# Altium schematic symbol library Schlib.SchLib: 9 symbols
Pins are listed as number, name and electrical type; pins without a type are passive.

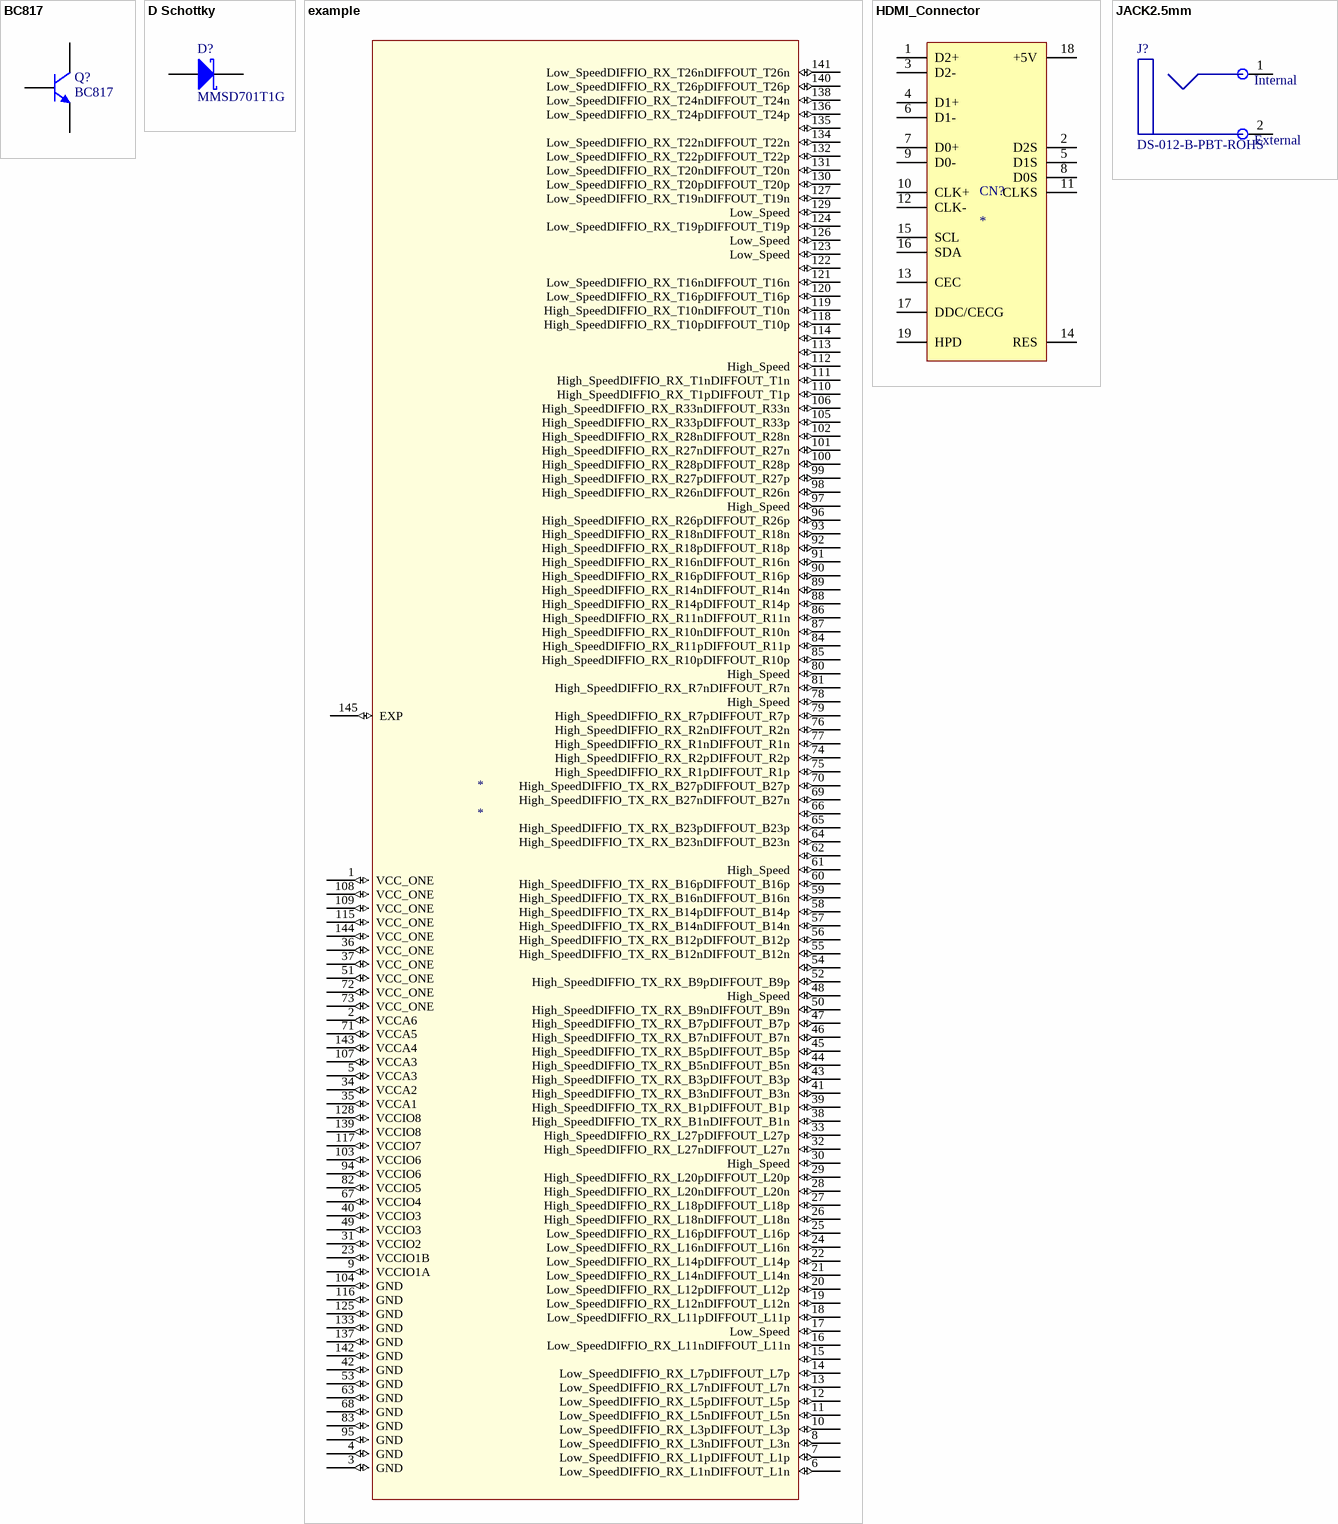
[diagram p0: symbols BC817 to JACK2.5mm]

## BC817
designator Q?
NPN General Purpose Amplifier; Published: 8-Jun-2000; LatestRevisionDate: 15-Jan-2003; LatestRevisionNote: PCB Footprint 'BCY-W3/D4.7' replaced; DatasheetVersion: 1997; PackageVersion: Sep-1998; PackageReference: TO-92A; Publisher: Altium Limited; PackageDescription: TO, Flat Index; 3 In-Line, Axial Leads; Body Dia. 4.5mm; Leads 0.51 x 0.48 mm (max); ComponentLink1Description: Manufacturer Link; ComponentLink1URL: http://www.fairchildsemi.com/; ComponentLink2Description: Datasheet; ComponentLink2URL: http://www.fairchildsemi.com/ds/2N%2F2N3904.pdf
footprint SOT-23 (SOT23, 3-Leads, Body 2.90x2.45mm, Pitch 0.95mm, IPC Low Density)
pins: 1 B, 2 E, 3 C

## D Schottky
designator D?, comment MMSD701T1G
ON SEMI; Published: 8-Jun-2000; LatestRevisionDate: 17-Jul-2002; LatestRevisionNote: Re-released for DXP Platform.; PackageReference: SMB; Publisher: Altium Limited; Code_JEDEC: DO-214-AA
footprint SMB (DO-214-AA/SMB; 2 C-Bend Leads; Body 5.3 x 3.6 mm, inc. leads (LxW))
simulation model SKYDIODE (Diode)
signal-integrity model D Schottky
footprint SOD-123 (SOD-123; 2 Leads; Body 2.7 x 1.6 mm, (LxW))
pins: 1 A, 2 K

## example
designator *
pins: 1 VCC_ONE (io) "-", 2 VCCA6 (io) "-", 3 GND (io) "-", 4 GND (io) "-", 5 VCCA3 (io) "-", 6 Low_SpeedDIFFIO_RX_L1nDIFFOUT_L1n (io) "-", 7 Low_SpeedDIFFIO_RX_L1pDIFFOUT_L1p (io) "-", 8 Low_SpeedDIFFIO_RX_L3nDIFFOUT_L3n (io) "-", 9 VCCIO1A (io) "-", 10 Low_SpeedDIFFIO_RX_L3pDIFFOUT_L3p (io) "-", 11 Low_SpeedDIFFIO_RX_L5nDIFFOUT_L5n (io) "-", 12 Low_SpeedDIFFIO_RX_L5pDIFFOUT_L5p (io) "-", 13 Low_SpeedDIFFIO_RX_L7nDIFFOUT_L7n (io) "-", 14 Low_SpeedDIFFIO_RX_L7pDIFFOUT_L7p (io) "-", 15 (io) "-", 16 Low_SpeedDIFFIO_RX_L11nDIFFOUT_L11n (io) "-", 17 Low_Speed (io) "-", 18 Low_SpeedDIFFIO_RX_L11pDIFFOUT_L11p (io) "-", 19 Low_SpeedDIFFIO_RX_L12nDIFFOUT_L12n (io) "-", 20 Low_SpeedDIFFIO_RX_L12pDIFFOUT_L12p (io) "-", 21 Low_SpeedDIFFIO_RX_L14nDIFFOUT_L14n (io) "-", 22 Low_SpeedDIFFIO_RX_L14pDIFFOUT_L14p (io) "-", 23 VCCIO1B (io) "-", 24 Low_SpeedDIFFIO_RX_L16nDIFFOUT_L16n (io) "-", 25 Low_SpeedDIFFIO_RX_L16pDIFFOUT_L16p (io) "-", 26 High_SpeedDIFFIO_RX_L18nDIFFOUT_L18n (io) "-", 27 High_SpeedDIFFIO_RX_L18pDIFFOUT_L18p (io) "-", 28 High_SpeedDIFFIO_RX_L20nDIFFOUT_L20n (io) "-", 29 High_SpeedDIFFIO_RX_L20pDIFFOUT_L20p (io) "-", 30 High_Speed (io) "-", 31 VCCIO2 (io) "-", 32 High_SpeedDIFFIO_RX_L27nDIFFOUT_L27n (io) "-", 33 High_SpeedDIFFIO_RX_L27pDIFFOUT_L27p (io) "-", 34 VCCA2 (io) "-", 35 VCCA1 (io) "-", 36 VCC_ONE (io) "-", 37 VCC_ONE (io) "-", 38 High_SpeedDIFFIO_TX_RX_B1nDIFFOUT_B1n (io) "-", 39 High_SpeedDIFFIO_TX_RX_B1pDIFFOUT_B1p (io) "-", 40 VCCIO3 (io) "-", 41 High_SpeedDIFFIO_TX_RX_B3nDIFFOUT_B3n (io) "-", 42 GND (io) "-", 43 High_SpeedDIFFIO_TX_RX_B3pDIFFOUT_B3p (io) "-", 44 High_SpeedDIFFIO_TX_RX_B5nDIFFOUT_B5n (io) "-", 45 High_SpeedDIFFIO_TX_RX_B5pDIFFOUT_B5p (io) "-", 46 High_SpeedDIFFIO_TX_RX_B7nDIFFOUT_B7n (io) "-", 47 High_SpeedDIFFIO_TX_RX_B7pDIFFOUT_B7p (io) "-", 48 High_Speed (io) "-", 49 VCCIO3 (io) "-", 50 High_SpeedDIFFIO_TX_RX_B9nDIFFOUT_B9n (io) "-", 51 VCC_ONE (io) "-", 52 High_SpeedDIFFIO_TX_RX_B9pDIFFOUT_B9p (io) "-", 53 GND (io) "-", 54 (io) "-", 55 High_SpeedDIFFIO_TX_RX_B12nDIFFOUT_B12n (io) "-", 56 High_SpeedDIFFIO_TX_RX_B12pDIFFOUT_B12p (io) "-", 57 High_SpeedDIFFIO_TX_RX_B14nDIFFOUT_B14n (io) "-", 58 High_SpeedDIFFIO_TX_RX_B14pDIFFOUT_B14p (io) "-", 59 High_SpeedDIFFIO_TX_RX_B16nDIFFOUT_B16n (io) "-", 60 High_SpeedDIFFIO_TX_RX_B16pDIFFOUT_B16p (io) "-", 61 High_Speed (io) "-", 62 (io) "-", 63 GND (io) "-", 64 High_SpeedDIFFIO_TX_RX_B23nDIFFOUT_B23n (io) "-", 65 High_SpeedDIFFIO_TX_RX_B23pDIFFOUT_B23p (io) "-", 66 (io) "-", 67 VCCIO4 (io) "-", 68 GND (io) "-", 69 High_SpeedDIFFIO_TX_RX_B27nDIFFOUT_B27n (io) "-", 70 High_SpeedDIFFIO_TX_RX_B27pDIFFOUT_B27p (io) "-", 71 VCCA5 (io) "-", 72 VCC_ONE (io) "-", 73 VCC_ONE (io) "-", 74 High_SpeedDIFFIO_RX_R2pDIFFOUT_R2p (io) "-", 75 High_SpeedDIFFIO_RX_R1pDIFFOUT_R1p (io) "-", 76 High_SpeedDIFFIO_RX_R2nDIFFOUT_R2n (io) "-", 77 High_SpeedDIFFIO_RX_R1nDIFFOUT_R1n (io) "-", 78 High_Speed (io) "-", 79 High_SpeedDIFFIO_RX_R7pDIFFOUT_R7p (io) "-", 80 High_Speed (io) "-", 81 High_SpeedDIFFIO_RX_R7nDIFFOUT_R7n (io) "-", 82 VCCIO5 (io) "-", 83 GND (io) "-", 84 High_SpeedDIFFIO_RX_R11pDIFFOUT_R11p (io) "-", 85 High_SpeedDIFFIO_RX_R10pDIFFOUT_R10p (io) "-", 86 High_SpeedDIFFIO_RX_R11nDIFFOUT_R11n (io) "-", 87 High_SpeedDIFFIO_RX_R10nDIFFOUT_R10n (io) "-", 88 High_SpeedDIFFIO_RX_R14pDIFFOUT_R14p (io) "-", 89 High_SpeedDIFFIO_RX_R14nDIFFOUT_R14n (io) "-", 90 High_SpeedDIFFIO_RX_R16pDIFFOUT_R16p (io) "-", 91 High_SpeedDIFFIO_RX_R16nDIFFOUT_R16n (io) "-", 92 High_SpeedDIFFIO_RX_R18pDIFFOUT_R18p (io) "-", 93 High_SpeedDIFFIO_RX_R18nDIFFOUT_R18n (io) "-", 94 VCCIO6 (io) "-", 95 GND (io) "-", 96 High_SpeedDIFFIO_RX_R26pDIFFOUT_R26p (io) "-", 97 High_Speed (io) "-", 98 High_SpeedDIFFIO_RX_R26nDIFFOUT_R26n (io) "-", 99 High_SpeedDIFFIO_RX_R27pDIFFOUT_R27p (io) "-", 100 High_SpeedDIFFIO_RX_R28pDIFFOUT_R28p (io) "-", 101 High_SpeedDIFFIO_RX_R27nDIFFOUT_R27n (io) "-", 102 High_SpeedDIFFIO_RX_R28nDIFFOUT_R28n (io) "-", 103 VCCIO6 (io) "-", 104 GND (io) "-", 105 High_SpeedDIFFIO_RX_R33pDIFFOUT_R33p (io) "-", 106 High_SpeedDIFFIO_RX_R33nDIFFOUT_R33n (io) "-", 107 VCCA3 (io) "-", 108 VCC_ONE (io) "-", 109 VCC_ONE (io) "-", 110 High_SpeedDIFFIO_RX_T1pDIFFOUT_T1p (io) "-", 111 High_SpeedDIFFIO_RX_T1nDIFFOUT_T1n (io) "-", 112 High_Speed (io) "-", 113 (io) "-", 114 (io) "-", 115 VCC_ONE (io) "-", 116 GND (io) "-", 117 VCCIO7 (io) "-", 118 High_SpeedDIFFIO_RX_T10pDIFFOUT_T10p (io) "-", 119 High_SpeedDIFFIO_RX_T10nDIFFOUT_T10n (io) "-", 120 Low_SpeedDIFFIO_RX_T16pDIFFOUT_T16p (io) "-", 121 Low_SpeedDIFFIO_RX_T16nDIFFOUT_T16n (io) "-", 122 (io) "-", 123 Low_Speed (io) "-", 124 Low_SpeedDIFFIO_RX_T19pDIFFOUT_T19p (io) "-", 125 GND (io) "-", 126 Low_Speed (io) "-", 127 Low_SpeedDIFFIO_RX_T19nDIFFOUT_T19n (io) "-", 128 VCCIO8 (io) "-", 129 Low_Speed (io) "-", 130 Low_SpeedDIFFIO_RX_T20pDIFFOUT_T20p (io) "-", 131 Low_SpeedDIFFIO_RX_T20nDIFFOUT_T20n (io) "-", 132 Low_SpeedDIFFIO_RX_T22pDIFFOUT_T22p (io) "-", 133 GND (io) "-", 134 Low_SpeedDIFFIO_RX_T22nDIFFOUT_T22n (io) "-", 135 (io) "-", 136 Low_SpeedDIFFIO_RX_T24pDIFFOUT_T24p (io) "-", 137 GND (io) "-", 138 Low_SpeedDIFFIO_RX_T24nDIFFOUT_T24n (io) "-", 139 VCCIO8 (io) "-", 140 Low_SpeedDIFFIO_RX_T26pDIFFOUT_T26p (io) "-", 141 Low_SpeedDIFFIO_RX_T26nDIFFOUT_T26n (io) "-", 142 GND (io) "-", 143 VCCA4 (io) "-", 144 VCC_ONE (io) "-", 145 EXP (io) "-"

## HDMI_Connector
designator CN?
footprint 10029449-001RLF
pins: 1 D2+, 2 D2S, 3 D2-, 4 D1+, 5 D1S, 6 D1-, 7 D0+, 8 D0S, 9 D0-, 10 CLK+, 11 CLKS, 12 CLK-, 13 CEC, 14 RES, 15 SCL, 16 SDA, 17 DDC/CECG, 18 +5V, 19 HPD

## JACK2.5mm
designator J?, comment DS-012-B-PBT-ROHS
WEALTH METAL
footprint JACK
pins: 1, 2
text: Internal; External

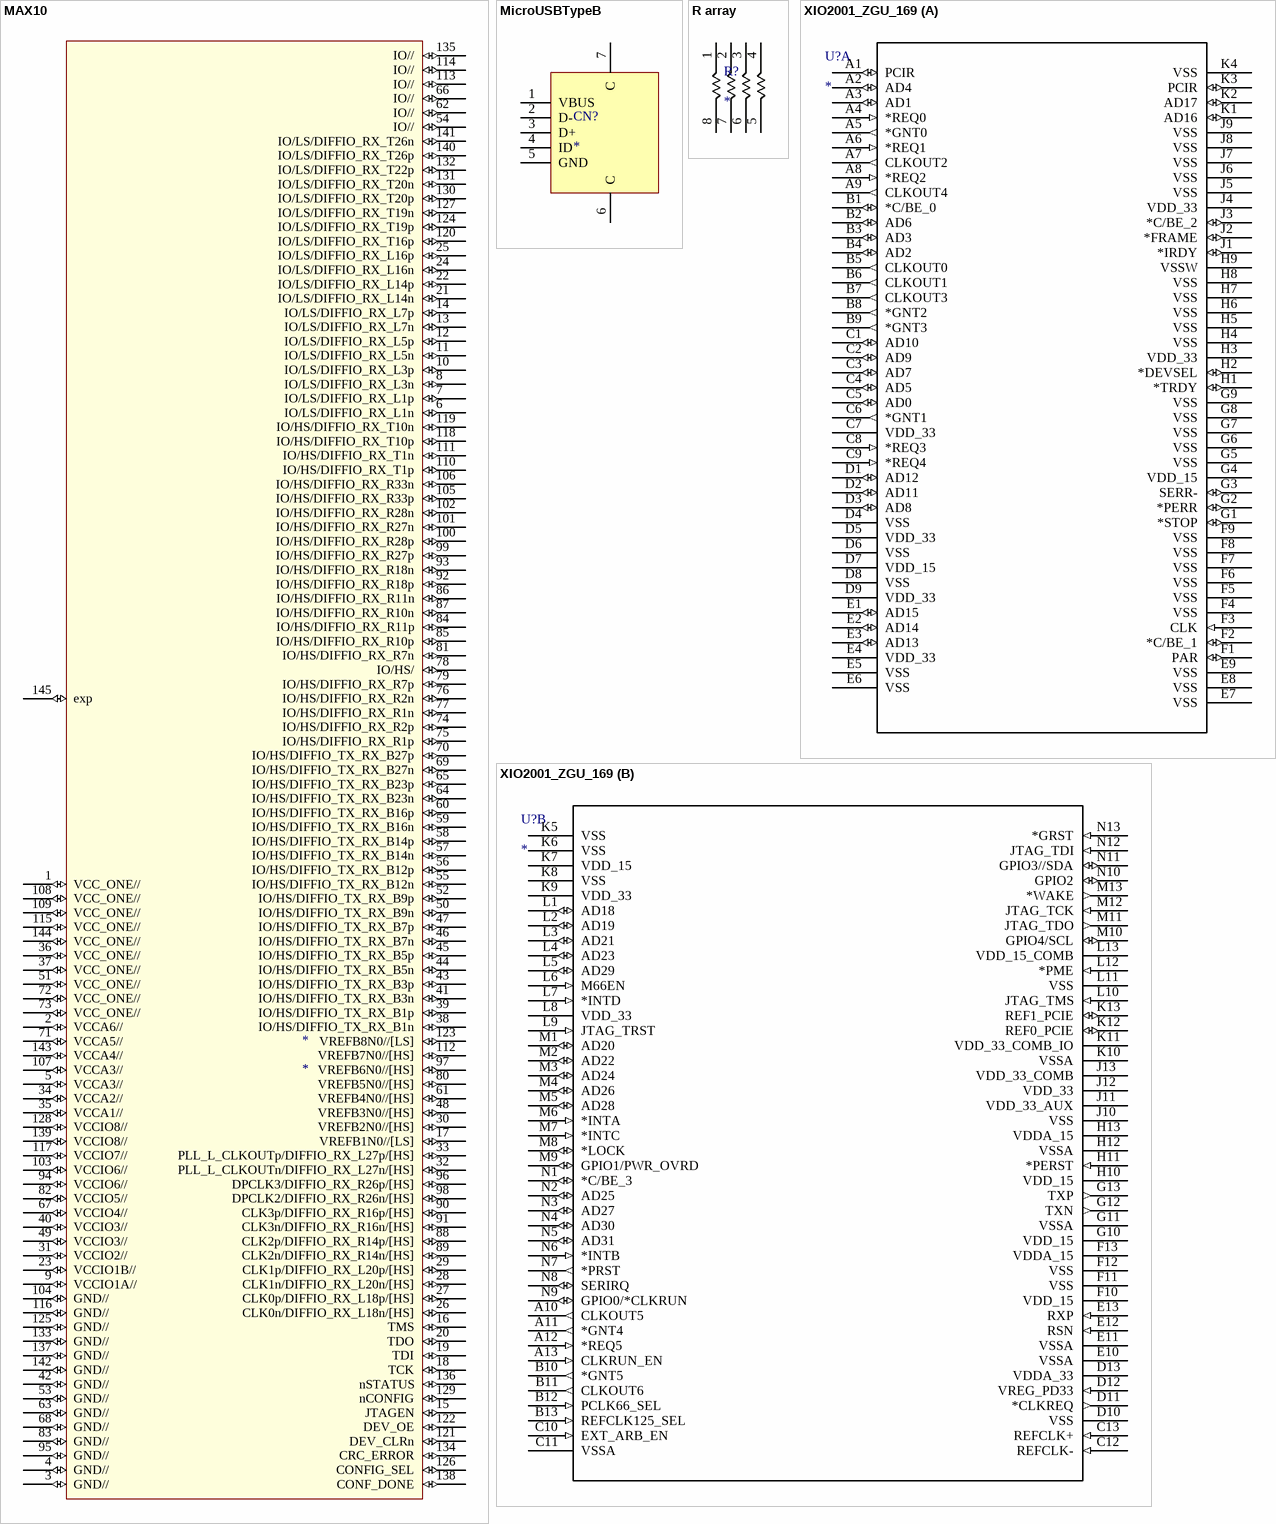
[diagram p1: symbols MAX10 to XIO2001_ZGU_169]

## MAX10
designator *
pins: 1 VCC_ONE// (io) "-", 2 VCCA6// (io) "-", 3 GND// (io) "-", 4 GND// (io) "-", 5 VCCA3// (io) "-", 6 IO/LS/DIFFIO_RX_L1n (io) "-", 7 IO/LS/DIFFIO_RX_L1p (io) "-", 8 IO/LS/DIFFIO_RX_L3n (io) "-", 9 VCCIO1A// (io) "-", 10 IO/LS/DIFFIO_RX_L3p (io) "-", 11 IO/LS/DIFFIO_RX_L5n (io) "-", 12 IO/LS/DIFFIO_RX_L5p (io) "-", 13 IO/LS/DIFFIO_RX_L7n (io) "-", 14 IO/LS/DIFFIO_RX_L7p (io) "-", 15 JTAGEN (io) "-", 16 TMS (io) "-", 17 VREFB1N0//[LS] (io) "-", 18 TCK (io) "-", 19 TDI (io) "-", 20 TDO (io) "-", 21 IO/LS/DIFFIO_RX_L14n (io) "-", 22 IO/LS/DIFFIO_RX_L14p (io) "-", 23 VCCIO1B// (io) "-", 24 IO/LS/DIFFIO_RX_L16n (io) "-", 25 IO/LS/DIFFIO_RX_L16p (io) "-", 26 CLK0n/DIFFIO_RX_L18n/[HS] (io) "-", 27 CLK0p/DIFFIO_RX_L18p/[HS] (io) "-", 28 CLK1n/DIFFIO_RX_L20n/[HS] (io) "-", 29 CLK1p/DIFFIO_RX_L20p/[HS] (io) "-", 30 VREFB2N0//[HS] (io) "-", 31 VCCIO2// (io) "-", 32 PLL_L_CLKOUTn/DIFFIO_RX_L27n/[HS] (io) "-", 33 PLL_L_CLKOUTp/DIFFIO_RX_L27p/[HS] (io) "-", 34 VCCA2// (io) "-", 35 VCCA1// (io) "-", 36 VCC_ONE// (io) "-", 37 VCC_ONE// (io) "-", 38 IO/HS/DIFFIO_TX_RX_B1n (io) "-", 39 IO/HS/DIFFIO_TX_RX_B1p (io) "-", 40 VCCIO3// (io) "-", 41 IO/HS/DIFFIO_TX_RX_B3n (io) "-", 42 GND// (io) "-", 43 IO/HS/DIFFIO_TX_RX_B3p (io) "-", 44 IO/HS/DIFFIO_TX_RX_B5n (io) "-", 45 IO/HS/DIFFIO_TX_RX_B5p (io) "-", 46 IO/HS/DIFFIO_TX_RX_B7n (io) "-", 47 IO/HS/DIFFIO_TX_RX_B7p (io) "-", 48 VREFB3N0//[HS] (io) "-", 49 VCCIO3// (io) "-", 50 IO/HS/DIFFIO_TX_RX_B9n (io) "-", 51 VCC_ONE// (io) "-", 52 IO/HS/DIFFIO_TX_RX_B9p (io) "-", 53 GND// (io) "-", 54 IO// (io) "-", 55 IO/HS/DIFFIO_TX_RX_B12n (io) "-", 56 IO/HS/DIFFIO_TX_RX_B12p (io) "-", 57 IO/HS/DIFFIO_TX_RX_B14n (io) "-", 58 IO/HS/DIFFIO_TX_RX_B14p (io) "-", 59 IO/HS/DIFFIO_TX_RX_B16n (io) "-", 60 IO/HS/DIFFIO_TX_RX_B16p (io) "-", 61 VREFB4N0//[HS] (io) "-", 62 IO// (io) "-", 63 GND// (io) "-", 64 IO/HS/DIFFIO_TX_RX_B23n (io) "-", 65 IO/HS/DIFFIO_TX_RX_B23p (io) "-", 66 IO// (io) "-", 67 VCCIO4// (io) "-", 68 GND// (io) "-", 69 IO/HS/DIFFIO_TX_RX_B27n (io) "-", 70 IO/HS/DIFFIO_TX_RX_B27p (io) "-", 71 VCCA5// (io) "-", 72 VCC_ONE// (io) "-", 73 VCC_ONE// (io) "-", 74 IO/HS/DIFFIO_RX_R2p (io) "-", 75 IO/HS/DIFFIO_RX_R1p (io) "-", 76 IO/HS/DIFFIO_RX_R2n (io) "-", 77 IO/HS/DIFFIO_RX_R1n (io) "-", 78 IO/HS/ (io) "-", 79 IO/HS/DIFFIO_RX_R7p (io) "-", 80 VREFB5N0//[HS] (io) "-", 81 IO/HS/DIFFIO_RX_R7n (io) "-", 82 VCCIO5// (io) "-", 83 GND// (io) "-", 84 IO/HS/DIFFIO_RX_R11p (io) "-", 85 IO/HS/DIFFIO_RX_R10p (io) "-", 86 IO/HS/DIFFIO_RX_R11n (io) "-", 87 IO/HS/DIFFIO_RX_R10n (io) "-", 88 CLK2p/DIFFIO_RX_R14p/[HS] (io) "-", 89 CLK2n/DIFFIO_RX_R14n/[HS] (io) "-", 90 CLK3p/DIFFIO_RX_R16p/[HS] (io) "-", 91 CLK3n/DIFFIO_RX_R16n/[HS] (io) "-", 92 IO/HS/DIFFIO_RX_R18p (io) "-", 93 IO/HS/DIFFIO_RX_R18n (io) "-", 94 VCCIO6// (io) "-", 95 GND// (io) "-", 96 DPCLK3/DIFFIO_RX_R26p/[HS] (io) "-", 97 VREFB6N0//[HS] (io) "-", 98 DPCLK2/DIFFIO_RX_R26n/[HS] (io) "-", 99 IO/HS/DIFFIO_RX_R27p (io) "-", 100 IO/HS/DIFFIO_RX_R28p (io) "-", 101 IO/HS/DIFFIO_RX_R27n (io) "-", 102 IO/HS/DIFFIO_RX_R28n (io) "-", 103 VCCIO6// (io) "-", 104 GND// (io) "-", 105 IO/HS/DIFFIO_RX_R33p (io) "-", 106 IO/HS/DIFFIO_RX_R33n (io) "-", 107 VCCA3// (io) "-", 108 VCC_ONE// (io) "-", 109 VCC_ONE// (io) "-", 110 IO/HS/DIFFIO_RX_T1p (io) "-", 111 IO/HS/DIFFIO_RX_T1n (io) "-", 112 VREFB7N0//[HS] (io) "-", 113 IO// (io) "-", 114 IO// (io) "-", 115 VCC_ONE// (io) "-", 116 GND// (io) "-", 117 VCCIO7// (io) "-", 118 IO/HS/DIFFIO_RX_T10p (io) "-", 119 IO/HS/DIFFIO_RX_T10n (io) "-", 120 IO/LS/DIFFIO_RX_T16p (io) "-", 121 DEV_CLRn (io) "-", 122 DEV_OE (io) "-", 123 VREFB8N0//[LS] (io) "-", 124 IO/LS/DIFFIO_RX_T19p (io) "-", 125 GND// (io) "-", 126 CONFIG_SEL (io) "-", 127 IO/LS/DIFFIO_RX_T19n (io) "-", 128 VCCIO8// (io) "-", 129 nCONFIG (io) "-", 130 IO/LS/DIFFIO_RX_T20p (io) "-", 131 IO/LS/DIFFIO_RX_T20n (io) "-", 132 IO/LS/DIFFIO_RX_T22p (io) "-", 133 GND// (io) "-", 134 CRC_ERROR (io) "-", 135 IO// (io) "-", 136 nSTATUS (io) "-", 137 GND// (io) "-", 138 CONF_DONE (io) "-", 139 VCCIO8// (io) "-", 140 IO/LS/DIFFIO_RX_T26p (io) "-", 141 IO/LS/DIFFIO_RX_T26n (io) "-", 142 GND// (io) "-", 143 VCCA4// (io) "-", 144 VCC_ONE// (io) "-", 145 exp (io) "-"

## MicroUSBTypeB
designator CN?
footprint MRUMRB05FTKTY-30U
pins: 1 VBUS, 2 D-, 3 D+, 4 ID, 5 GND, 6 C, 7 C

## R array
designator R?
pins: 1, 2, 3, 4, 5, 6, 7, 8

## XIO2001_ZGU_169
designator U?
Imported; Manufacturer_Part_Number: xio2001_zgu_169; GENERIC_PART_NUMBER: XIO2001; Vendor: Texas Instruments; PACKAGE_DESIGNATOR: ZGU; PIN_COUNT: 169; FAMILY_NAME: PCIE BRIDGE; INDUSTRY_STD_PKG_TYPE: BGA MICROSTAR; Datasheet URL: http://www.ti.com/lit/gpn/XIO2001; Manufacturer: Texas Instruments; RefDes: RefDes; Type: DEV; Value: Value
footprint ZGU169
part A pins: A1 PCIR (io), A2 AD4 (io), A3 AD1 (io), A4 *REQ0 (in), A5 *GNT0 (out), A6 *REQ1 (in), A7 CLKOUT2 (out), A8 *REQ2 (in), A9 CLKOUT4 (out), B1 *C/BE_0 (io), B2 AD6 (io), B3 AD3 (io), B4 AD2 (io), B5 CLKOUT0 (out), B6 CLKOUT1 (out), B7 CLKOUT3 (out), B8 *GNT2 (out), B9 *GNT3 (out), C1 AD10 (io), C2 AD9 (io), C3 AD7 (io), C4 AD5 (io), C5 AD0 (io), C6 *GNT1 (out), C7 VDD_33 (power), C8 *REQ3 (in), C9 *REQ4 (in), D1 AD12 (io), D2 AD11 (io), D3 AD8 (io), D4 VSS (power), D5 VDD_33 (power), D6 VSS (power), D7 VDD_15 (power), D8 VSS (power), D9 VDD_33 (power), E1 AD15 (io), E2 AD14 (io), E3 AD13 (io), E4 VDD_33 (power), E5 VSS (power), E6 VSS (power), E7 VSS (power), E8 VSS (power), E9 VSS (power), F1 PAR (io), F2 *C/BE_1 (io), F3 CLK (in), F4 VSS (power), F5 VSS (power), F6 VSS (power), F7 VSS (power), F8 VSS (power), F9 VSS (power), G1 *STOP (io), G2 *PERR (io), G3 SERR- (io), G4 VDD_15 (power), G5 VSS (power), G6 VSS (power), G7 VSS (power), G8 VSS (power), G9 VSS (power), H1 *TRDY (io), H2 *DEVSEL (io), H3 VDD_33 (power), H4 VSS (power), H5 VSS (power), H6 VSS (power), H7 VSS (power), H8 VSS (power), H9 VSSW (power), J1 *IRDY (io), J2 *FRAME (io), J3 *C/BE_2 (io), J4 VDD_33 (power), J5 VSS (power), J6 VSS (power), J7 VSS (power), J8 VSS (power), J9 VSS (power), K1 AD16 (io), K2 AD17 (io), K3 PCIR (io), K4 VSS (power)
part B pins: A10 CLKOUT5 (out), A11 *GNT4 (out), A12 *REQ5 (in), A13 CLKRUN_EN (in), B10 *GNT5 (out), B11 CLKOUT6 (out), B12 PCLK66_SEL (in), B13 REFCLK125_SEL (in), C10 EXT_ARB_EN (in), C11 VSSA (power), C12 REFCLK- (in), C13 REFCLK+ (in), D10 VSS (power), D11 *CLKREQ (out), D12 VREG_PD33 (in), D13 VDDA_33 (power), E10 VSSA (power), E11 VSSA (power), E12 RSN (in), E13 RXP (in), F10 VDD_15 (power), F11 VSS (power), F12 VSS (power), F13 VDDA_15 (power), G10 VDD_15 (power), G11 VSSA (power), G12 TXN (out), G13 TXP (out), H10 VDD_15 (power), H11 *PERST (in), H12 VSSA (power), H13 VDDA_15 (power), J10 VSS (power), J11 VDD_33_AUX (power), J12 VDD_33 (power), J13 VDD_33_COMB (power), K5 VSS (power), K6 VSS (power), K7 VDD_15 (power), K8 VSS (power), K9 VDD_33 (power), K10 VSSA (power), K11 VDD_33_COMB_IO (power), K12 REF0_PCIE (io), K13 REF1_PCIE (io), L1 AD18 (io), L2 AD19 (io), L3 AD21 (io), L4 AD23 (io), L5 AD29 (io), L6 M66EN (in), L7 *INTD (in), L8 VDD_33 (power), L9 JTAG_TRST (in), L10 JTAG_TMS (in), L11 VSS (power), L12 *PME (in), L13 VDD_15_COMB (power), M1 AD20 (io), M2 AD22 (io), M3 AD24 (io), M4 AD26 (io), M5 AD28 (io), M6 *INTA (in), M7 *INTC (in), M8 *LOCK (io), M9 GPIO1/PWR_OVRD (io), M10 GPIO4/SCL (io), M11 JTAG_TDO (out), M12 JTAG_TCK (in), M13 *WAKE (out), N1 *C/BE_3 (io), N2 AD25 (io), N3 AD27 (io), N4 AD30 (io), N5 AD31 (io), N6 *INTB (in), N7 *PRST (out), N8 SERIRQ (io), N9 GPIO0/*CLKRUN (io), N10 GPIO2 (io), N11 GPIO3//SDA (io), N12 JTAG_TDI (in), N13 *GRST (in)